# Altium schematic symbol library 开关.SchLib: 1 symbol
Pins are listed as number, name and electrical type; pins without a type are passive.

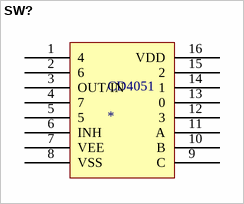
[diagram p0: symbol SW?]

## SW?
designator CD4051
pins: 1 4, 2 6, 3 OUT/IN, 4 7, 5, 6 INH, 7 VEE, 8 VSS, 9 C, 10 B, 11 A, 12 3, 13 0, 14 1, 15 2, 16 VDD